# EAGLE library part 3535-RGBWLED (library led)
RGBW LED 150mA/ch
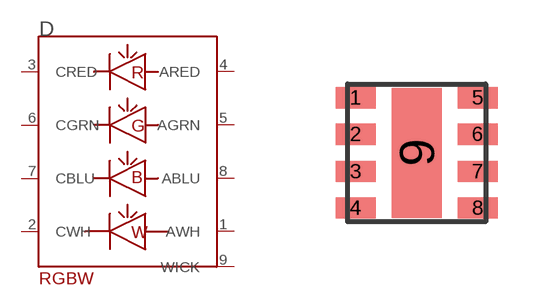
[diagram p14: symbol with the pads of 3535-RGBWLED; footprint 3535-RGBWLED]

Designator prefix D

## 3535-RGBWLED  [3535-RGBWLED]
1  AWH
2  CWH
3  CRED
4  ARED
5  AGRN
6  CGRN
7  CBLU
8  ABLU
9  WICK

## Footprint 3535-RGBWLED (pad centres in mm)
smd 1 x 0.535: 1 -1.525,1.38; 2 -1.525,0.468; 3 -1.525,-0.468; 4 -1.525,-1.38; 5 1.525,1.38; 6 1.525,0.468; 7 1.525,-0.468; 8 1.525,-1.38
smd 1.25 x 3.25: 9 0,0